# EAGLE library part ATTINY84 (library pimoroni)
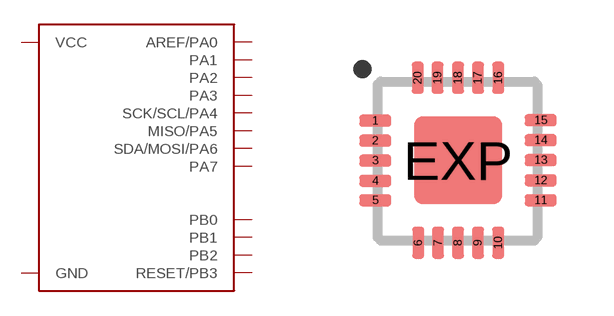
[diagram p43: symbol with the pads of MLF20-4X4-TH; footprint MLF20-4X4-TH]

Designator prefix -

## ATTINY84  [MLF20-4X4-TH]
1  SCK/SCL/PA4
2  PA3
3  PA2
4  PA1
5  AREF/PA0
8  GND
9  VCC
11  PB0
12  PB1
13  RESET/PB3
14  PB2
15  PA7
16  SDA/MOSI/PA6
20  MISO/PA5
EXP  GND

## Footprint MLF20-4X4-TH (pad centres in mm)
HP-VFQFP-N20 QFN 20 -5 x 5 mm Micro Lead Frame package (MLF) Source: http://www.atmel.com/dyn/resources/prod_documents/doc4533.pdf
smd 0.8 x 0.3: 1 -3.074,-0.008; 2 -3.074,-0.506; 3 -3.074,-1.003; 4 -3.074,-1.514; 5 -3.074,-1.998; 11 1.067,-1.998; 12 1.067,-1.501; 13 1.067,-0.991; 14 1.067,-0.493; 15 1.067,0.005
smd 0.3 x 0.8: 6 -1.998,-3.061; 7 -1.501,-3.061; 8 -1.003,-3.061; 9 -0.506,-3.061; 10 0.005,-3.061; 16 0.005,1.067; 17 -0.506,1.067; 18 -1.003,1.067; 19 -1.514,1.067; 20 -2.011,1.067
smd 2.2 x 2.2: EXP -1,-1